# Altium footprint library PCB.PcbLib: 8 footprints
Each footprint in its own frame and in the unit in brackets; x right, y up, seen from the top. Pads: shape width x height; smd on the part's side, far side on the other; paste and mask are expansions set on the pad; w line width, h text height; cw(c..) or ccw(c..) is an arc to the next point about the centre after c.
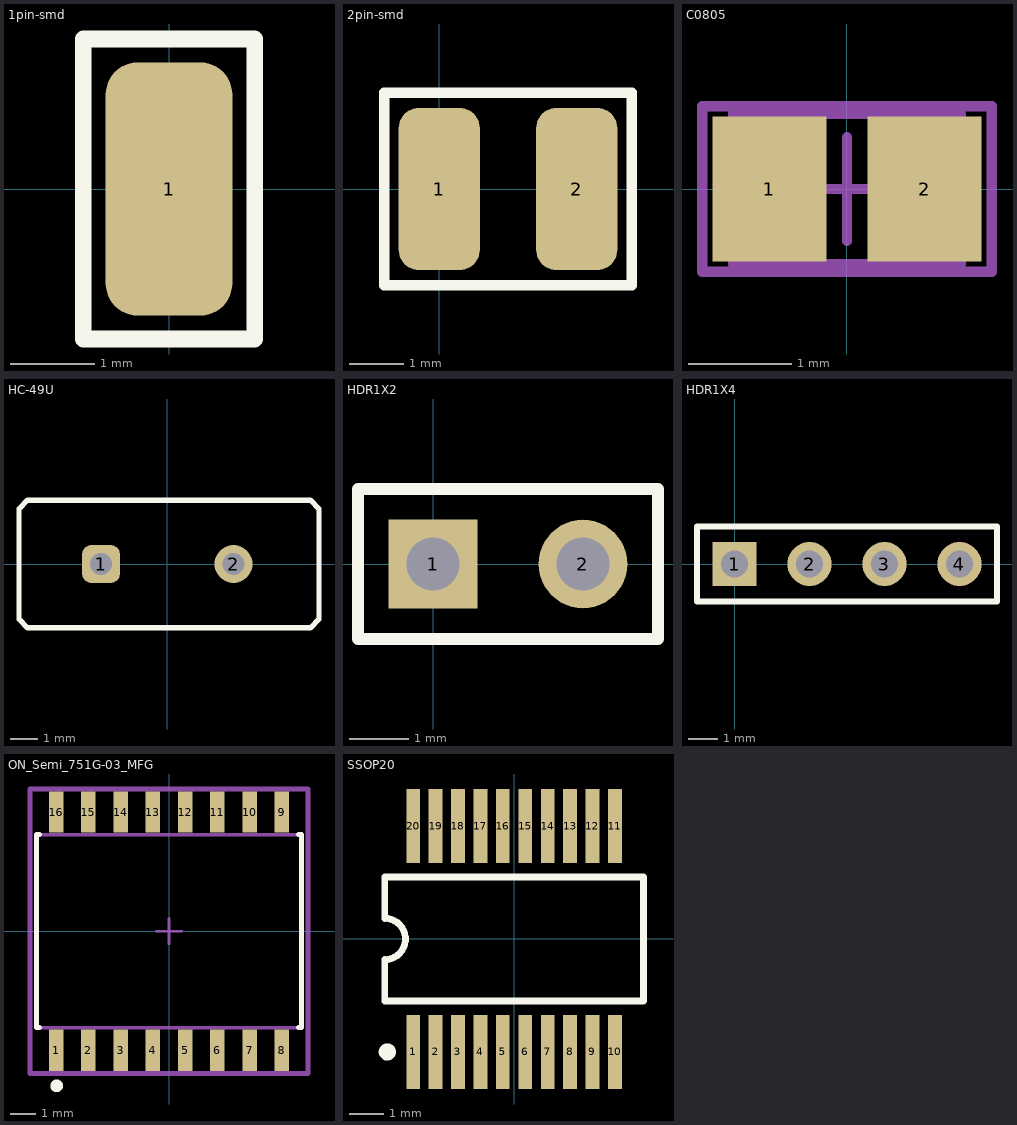
[diagram p0: the footprints below, top view; thin cyan lines are the x and y axes]

## 1pin-smd [mm]
pads (1):
  rrect50% 1.5x3 smd: 1(0,0)
Top Overlay:
  lines w0.2: -1.016,-1.778 -1.016,1.778 1.016,1.778 1.016,-1.778 -1.016,-1.778

## 2pin-smd [mm] "Connector; Header; 2 Position"
pads (2):
  rrect50% 1.5x3 smd: 1(0,0) 2(2.54,0)
Top Overlay:
  lines w0.2: -1.016,-1.778 -1.016,1.778 3.556,1.778 3.556,-1.778 -1.016,-1.778

## C0805 [mm] "Chip Capacitor, Body 2.0x1.3mm, IPC High Density"
height 1.4
pads (2):
  rect 1.1x1.4 smd: 1(-0.75,0) 2(0.75,0)
Mechanical 13:
  lines w0.1: -1.1,-0.725 1.1,-0.725 1.1,0.725 -1.1,0.725 -1.1,-0.725
Mechanical 15:
  lines w0.1: -0.5,0 0.5,0 ; 0,-0.5 0,0.5 ; -1.4,-0.8 1.4,-0.8 1.4,0.8 -1.4,0.8 -1.4,-0.8
3D body: height 1.4, standoff 0, extent -1.1,-0.725 1.1,0.725

## HC-49U [mm] "Quartz Crystal, Thru-Hole; 2 Leads; Body 11.35 x 4.65 x 13.46 mm (LxWxH max)"
height 13.46
pads (2):
  rrect50% 1.4x1.4 hole 0.8: 1(-2.44,0)
  round 1.4 hole 0.8: 2(2.44,0)
Top Overlay:
  lines w0.2: -5.461,-2.032 -5.143,-2.35 5.27,-2.35 5.588,-2.032 5.588,2.032 5.27,2.35 -5.143,2.35 -5.461,2.032 -5.461,-2.032
3D body "Crystal Oscillator.x_t": height 3.35, standoff -2.85, extent -5.475,-2.286 5.475,2.314

## HDR1X2 [mm] "Connector; Header; 2 Position"
pads (2):
  rect 1.5x1.5 hole 0.9: 1(0,0)
  round 1.5 hole 0.9: 2(2.54,0)
Top Overlay:
  lines w0.2: -1.27,-1.27 -1.27,1.27 3.81,1.27 3.81,-1.27 -1.27,-1.27

## HDR1X4 [mm] "Connector; Header; 4 Position"
pads (4):
  rect 1.5x1.5 hole 0.9: 1(0,0)
  round 1.5 hole 0.9: 2(2.54,0) 3(5.08,0) 4(7.62,0)
Top Overlay:
  lines w0.2: -1.27,-1.27 8.89,-1.27 8.89,1.27 -1.27,1.27 -1.27,-1.27

## ON_Semi_751G-03_MFG [mm]
pads (16):
  rect 0.58x1.62 smd paste+0 mask+0: 1(-4.445,-4.69) 2(-3.175,-4.69) 3(-1.905,-4.69) 4(-0.635,-4.69) 5(0.635,-4.69) 6(1.905,-4.69) 7(3.175,-4.69) 8(4.445,-4.69) 9(4.445,4.69) 10(3.175,4.69) 11(1.905,4.69) 12(0.635,4.69) 13(-0.635,4.69) 14(-1.905,4.69) 15(-3.175,4.69) 16(-4.445,4.69)
Top Overlay:
  circle w0.25: c-4.425,-6.09 r0.125
  lines w0.2: -5.11,-3.8 -5.225,-3.8 -5.225,3.8 -5.11,3.8 ; 5.11,-3.8 5.225,-3.8 5.225,3.8 5.11,3.8
Mechanical 10:
  lines w0.2: -5.475,-5.6 -5.475,5.6 5.475,5.6 5.475,-5.6 -5.475,-5.6
  text ".Designator" at 0,0 h1
Mechanical 12:
  lines w0.15: -5.225,-3.8 -5.225,3.8 5.225,3.8 5.225,-3.8 -5.225,-3.8
Mechanical 15:
  lines w0.1: -0.5,0 0.5,0 ; 0,-0.5 0,0.5
  lines w0.2: -5.475,-5.6 -5.475,5.6 5.475,5.6 5.475,-5.6 -5.475,-5.6
3D body "IC_ON_Semi_MC14490DWG_eec.STEP": height 0.25, standoff 0, extent -5.475,-5.6 5.475,5.6

## SSOP20 [mm] "SSOP, Plastic; 20 Leads; Body Width 5.3 mm; Pitch 0.65 mm"
height 2
pads (20):
  rect 0.4x2.15 smd: 1(-2.925,-3.275) 2(-2.275,-3.275) 3(-1.625,-3.275) 4(-0.975,-3.275) 5(-0.325,-3.275) 6(0.325,-3.275) 7(0.975,-3.275) 8(1.625,-3.275) 9(2.275,-3.275) 10(2.925,-3.275) 11(2.925,3.275) 12(2.275,3.275) 13(1.625,3.275) 14(0.975,3.275) 15(0.325,3.275) 16(-0.325,3.275) 17(-0.975,3.275) 18(-1.625,3.275) 19(-2.275,3.275) 20(-2.925,3.275)
Top Overlay:
  circle w0.25: c-3.675,-3.275 r0.125
  lines w0.2: -3.75,-1.8 -3.75,-0.6 ccw(c-3.75,0) -3.75,0.6 -3.75,1.8 3.75,1.8 3.75,-1.8 -3.75,-1.8
3D body "TSSOP-20-TI-PW.x_t": height 1.2, standoff 0, extent -3.25,-3.21 3.25,3.211